# Altium footprint library 1206 Package.PcbLib: 1 footprints
Each footprint in its own frame and in the unit in brackets; x right, y up, seen from the top. Pads: shape width x height; smd on the part's side, far side on the other; paste and mask are expansions set on the pad; w line width, h text height; cw(c..) or ccw(c..) is an arc to the next point about the centre after c.
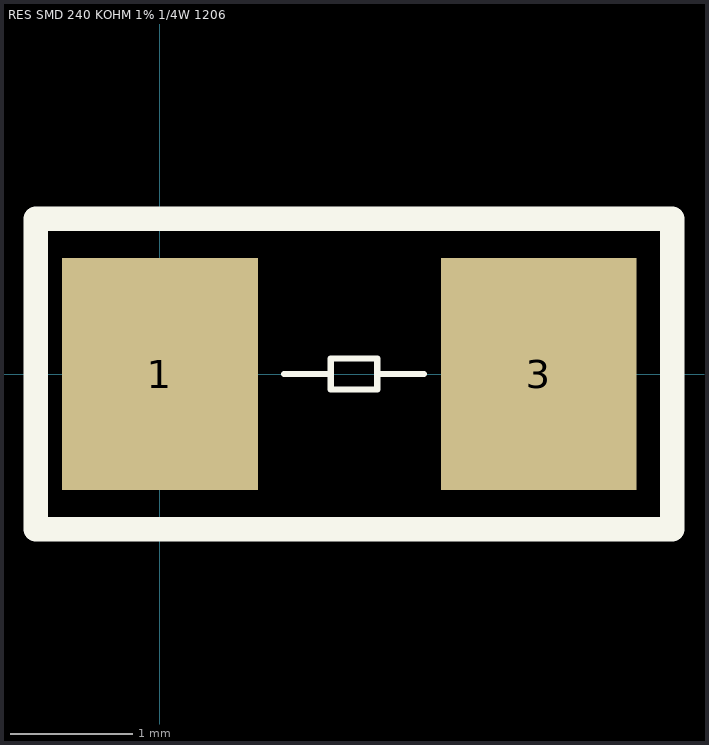
[diagram p0: the footprint, top view; thin cyan lines are the x and y axes]

## RES SMD 240 KOHM 1% 1/4W 1206 [mm] "240 kOhms ±1% 0.25W, 1/4W Chip Resistor 1206 (3216 Metric) Automotive AEC-Q200, High Voltage Thick Film"
pads (2):
  rect 1.6x1.9 smd: 1(0,0) 3(3.1,0)
Top Overlay:
  lines w0.05: 1.016,0 1.397,0 ; 1.778,0 2.159,0 ; 1.397,0 1.397,-0.127 1.778,-0.127 1.778,0.127 1.397,0.127 1.397,0
  lines w0.2: -1.016,-1.27 -1.016,1.27 4.191,1.27 4.191,-1.27 -1.016,-1.27
3D body "Resistor 1206.step": height 0.61, standoff 0.01, extent -0.05,-0.8 3.15,0.8